# Altium schematic symbol library MPRLS0025PA00001A.SchLib: 1 symbol
Pins are listed as number, name and electrical type; pins without a type are passive.

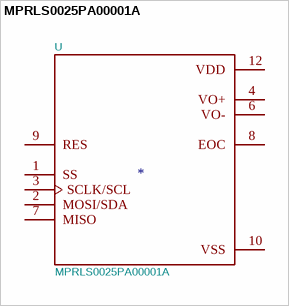
[diagram p0: symbol MPRLS0025PA00001A]

## MPRLS0025PA00001A
designator U  value MPRLS0025PA00001A
Parameter_4: Unavailable; Parameter_5: Pressure Sensor 0psi to 25psi Absolute 12-Pin T/R; Parameter_6: SMD-10 Honeywell; Parameter_7: Honeywell Sensing; Parameter_8: None; Footprint: XDCR_MPRLS0025PA00001A; Supplier: MPRLS0025PA00001A
footprint XDCR_MPRLS0025PA00001A
pins: 1 SS, 2 MOSI/SDA, 3 SCLK/SCL, 4 VO+, 6 VO-, 7 MISO, 8 EOC, 9 RES, 10 VSS, 12 VDD